# EAGLE library part USB (library con-usb-3)
USB Connectors
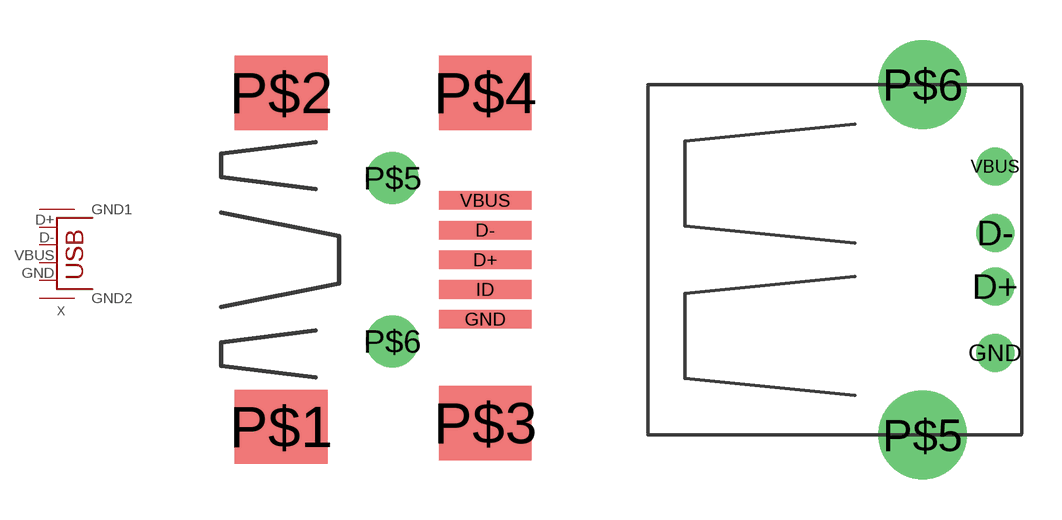
[diagram p0: symbol with the pads of USB-MB-S; footprints USB-MB-S, USB-A-H]

Designator prefix X

## USB-MB-S  [USB-MB-S]
D+  D+
D-  D-
GND  GND
VBUS  VBUS

## USB-A-H  [USB-A-H]
D+  D+
D-  D-
GND  GND
P$5  GND1
P$6  GND2
VBUS  VBUS

## USB-B-H  [USB-B-H]
Pads as for USB-MB-S

## USB-A-S  [USB-A-S]
Pads as for USB-MB-S

## USB-MB-H  [USB-MB-H]
Pads as for USB-MB-S

## USB-A-HU  [USB-A-HU]
Pads as for USB-MB-S

## USB-B-S  [USB-B-SMT]
D+  D+
D-  D-
GND  GND
VUSB  VBUS

## USB-B-V  [USB-BV2]
Pads as for USB-MB-S

## Footprint USB-MB-S (pad centres in mm)
USB Series Mini-B Surface Mounted
smd 2.5 x 0.5: D+ 2.5,0; D- 2.5,0.8; GND 2.5,-1.6; ID 2.5,-0.8; VBUS 2.5,1.6
smd 2.5 x 2: P$1 -3,-4.5; P$2 -3,4.5; P$3 2.5,-4.4; P$4 2.5,4.5
drill 0.9: P$5 0,2.2; P$6 0,-2.2

## Footprint USB-A-H (pad centres in mm)
USB Series A Hole Mounted
drill 0.914: D+ 2.718,-1.003; D- 2.718,1.003; GND 2.718,-3.493; VBUS 2.718,3.493
drill 2.311: P$5 0,-6.566; P$6 0,6.566

## Footprint USB-B-H (pad centres in mm)
USB Series B Hole Mounted
drill 0.914: D+ 0,1.25; D- 1.981,1.25; GND 0,-1.25; VBUS 1.981,-1.25
drill 2.286: P$1 -2.718,-6.02; P$2 -2.718,6.02

## Footprint USB-A-S (pad centres in mm)
USB Series A Surface Mounted
smd 3 x 0.9: D+ 3.45,-1; D- 3.45,1; GND 3.45,-3; VBUS 3.45,3
drill 2.311: P$5 0,-6.566; P$6 0,6.566

## Footprint USB-MB-H (pad centres in mm)
USB Series Mini-B Hole Mounted
drill 0.8: D+ 5.1,0; D- 3.9,0.8; GND 5.1,-1.6; ID 3.9,-0.8; VBUS 5.1,1.6
drill 1.9: P$6 0,-3.65; P$7 0,3.65

## Footprint USB-A-HU (pad centres in mm)
USB Series A Hole Mounted Up-Right
drill 0.9: D+ 2.73,0; D- 4.73,0; GND 0.73,0; VBUS 6.73,0
drill 1.5: P$5 0,2.72; P$6 0,-2.72; P$7 7,2.72; P$8 7,-2.72

## Footprint USB-B-SMT (pad centres in mm)
USB Series B Surface Mounted
smd 6.04 x 3.4: 5 0.58,6.8; 6 0.58,-6.8
smd 3 x 0.7: D+ 7,0.625; D- 7,-0.625; GND 7,1.875; VUSB 7,-1.875
hole 1.4 at 0,2.25
hole 1.4 at 0,-2.25

## Footprint USB-BV2 (pad centres in mm)
drill 0.914: D+ -1.25,-1.8; D- -1.25,1.4; GND 1.25,-1.8; VBUS 1.25,1.4
drill 2.4: P$1 0,-5.65; P$2 -6.02,-1.34; P$3 6.02,-1.34; P$4 0,5.35